# Altium footprint library Conn.Molex.PcbLib: 79 footprints (part 1 of 5)
Each footprint in its own frame and in the unit in brackets; x right, y up, seen from the top. Pads: shape width x height; smd on the part's side, far side on the other; paste and mask are expansions set on the pad; w line width, h text height; cw(c..) or ccw(c..) is an arc to the next point about the centre after c.
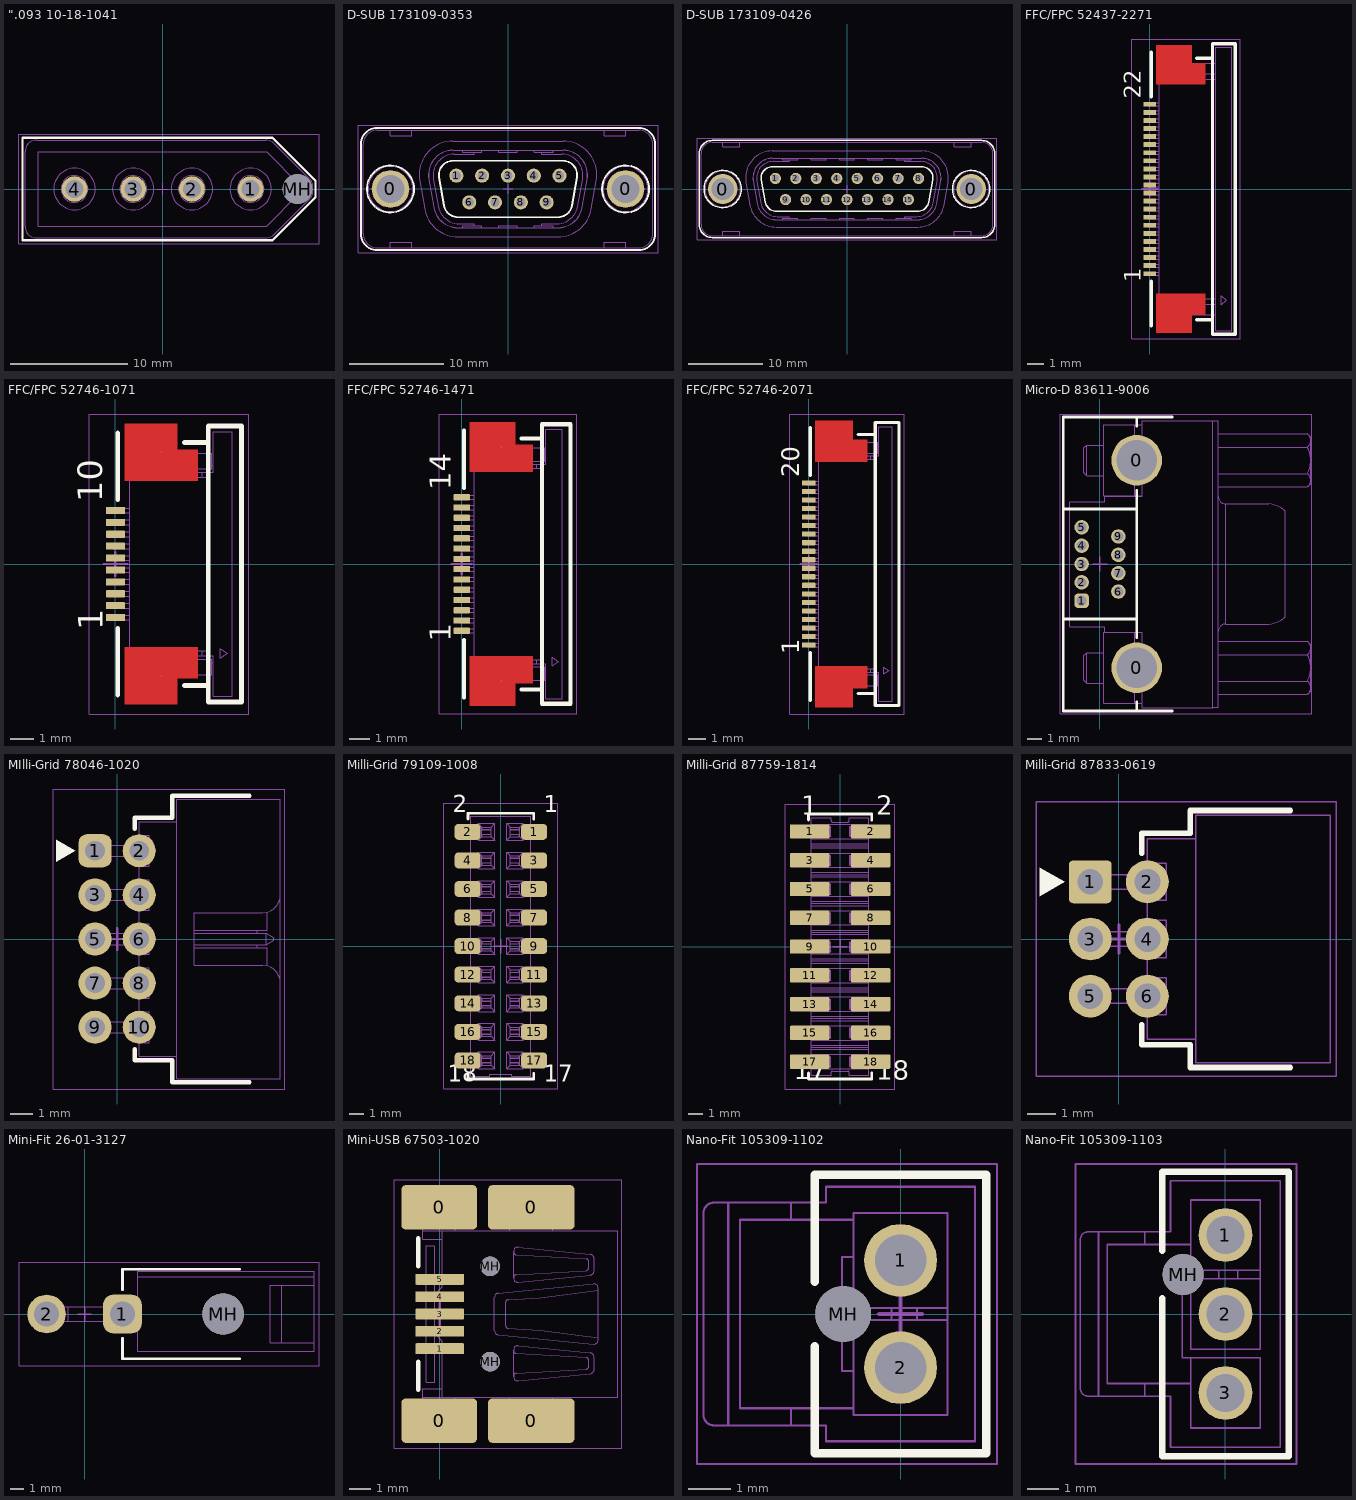
[diagram p0: the footprints below, top view; thin cyan lines are the x and y axes]

## ".093 10-18-1041 [mil] "Molex \".093 Series Connector, 24.6x8.40mm, 5.03mm Pitch, 4-Leads"
height 421.26
pads (5):
  round 86.61 hole 60: 1(297,0) 2(99,0) 3(-99,0) 4(-297,0)
  round 100 hole 100 unplated: MH(455,0)
Top Overlay:
  lines w7.87: -472.44,-173.23 -472.44,173.23 370.08,173.23 515.75,27.56 515.75,-27.56 370.08,-173.23 -472.44,-173.23
Mechanical 1:
  circle w1.97: c99.01,0 r45.5
  circle w1.97: c-98.99,0 r45.5
  circle w1.97: c297.01,0 r45.5
  circle w1.97: c-296.99,0 r45.5
  circle w1.97: c297.01,0 r70
  circle w1.97: c-296.99,0 r70
  circle w1.97: c99.01,0 r70
  circle w1.97: c-98.99,0 r70
  lines w1.97: -463.99,-125.63 ccw(c-424.62,-125.63) -424.62,-165 347.62,-165 ccw(c347.62,-125.63) 375.46,-153.47 500.24,-28.68 ccw(c486.32,-14.76) 506.01,-14.76 506.01,14.76 ccw(c486.32,14.76) 500.24,28.68 375.46,153.47 ccw(c347.62,125.63) 347.62,165 -424.62,165 ccw(c-424.62,125.63) -463.99,125.63 -463.99,-125.63 ; -418.99,-125 -418.99,125 351.01,125 461.01,15 461.01,-15 351.01,-125 -418.99,-125
Mechanical 15:
  lines w1.97: -484.25,-185.04 -484.25,185.04 527.56,185.04 527.56,-185.04 -484.25,-185.04
  lines w3.94: -19.68,0 19.68,0 ; 0,-19.68 0,19.68
3D body "10-18-1041.STEP": height 420, standoff -170, extent -463.99,-165 506.01,165

## D-SUB 173109-0353 [mm] "Molex D-SUB Connector, 9-Lead,  5.6mm Standoff, 10.3mm PC Tail"
height 17.2
pads (11):
  round 4 hole 3: 0(-12.5,0) 0(12.5,0)
  round 1.5 hole 1: 1(-5.49,1.42) 2(-2.75,1.42) 3(0,1.42) 4(2.74,1.42) 5(5.48,1.42) 6(-4.12,-1.42) 7(-1.38,-1.42) 8(1.37,-1.42) 9(4.11,-1.42)
Top Overlay:
  circle w0.2: c12.5,0 r2.502
  circle w0.2: c-12.5,0 r2.502
  lines w0.2: -15.65,-4.75 ccw(c-13.9,-4.75) -13.9,-6.5 13.9,-6.5 ccw(c13.9,-4.75) 15.65,-4.75 15.65,4.75 ccw(c13.9,4.75) 13.9,6.5 -13.9,6.5 ccw(c-13.9,4.75) -15.65,4.75 -15.65,-4.75 ; -7.327,1.24 cw(c-5.85,1.5) -5.85,3 5.85,3 cw(c5.85,1.5) 7.327,1.24 6.798,-1.76 cw(c5.321,-1.5) 5.321,-3 -5.321,-3 cw(c-5.321,-1.5) -6.798,-1.76 -7.327,1.24
Bottom Overlay:
  region: -6.44,1.42 -7.306,0.92 -7.306,1.92
Mechanical 1:
  circle w0.05: c-12.5,0 r1.08
  circle w0.05: c12.5,0 r1.08
  circle w0.05: c12.5,0 r1.7
  circle w0.05: c-12.5,0 r1.7
  circle w0.05: c-12.5,0 r2.375
  circle w0.05: c12.5,0 r2.375
  circle w0.05: c-5.49,1.42 r0.5
  circle w0.05: c5.49,1.42 r0.5
  circle w0.05: c-1.37,-1.42 r0.5
  circle w0.05: c1.37,-1.42 r0.5
  circle w0.05: c-4.11,-1.42 r0.5
  circle w0.05: c-2.74,1.42 r0.5
  circle w0.05: c0,1.42 r0.5
  circle w0.05: c2.74,1.42 r0.5
  circle w0.05: c4.11,-1.42 r0.5
  lines w0.05: -13.469,-0.404 -13.066,0 -13.469,0.404 ; -12.904,-0.969 -12.5,-0.566 -12.096,-0.969 ; -12.904,0.969 -12.5,0.566 -12.096,0.969 ; -12.505,-6.24 -10.21,-6.24 ; -12.505,6.24 -10.21,6.24 ; -11.531,-0.404 -11.934,0 -11.531,0.404 ; -4.8,-4.1 -4.8,-3.892 -2.8,-3.892 -2.8,-4.1 ; -4.8,4.1 -4.8,3.892 -2.8,3.892 -2.8,4.1 ; -3.565,-3.892 -3.565,-3.697 -5.181,-3.697 cw(c-5.181,-1.44) -7.401,-1.851 -7.934,1.029 cw(c-5.715,1.44) -5.715,3.697 -3.565,3.697 -3.565,3.892 ; -1,-4.1 -1,-3.892 1,-3.892 1,-4.1 ; -1,4.1 -1,3.892 1,3.892 1,4.1 ; 2.8,-4.1 2.8,-3.892 4.8,-3.892 4.8,-4.1 ; 2.8,4.1 2.8,3.892 4.8,3.892 4.8,4.1 ; 3.565,-3.892 3.565,-3.697 5.181,-3.697 ccw(c5.181,-1.44) 7.401,-1.851 7.934,1.029 ccw(c5.715,1.44) 5.715,3.697 3.565,3.697 3.565,3.892 ; 10.21,-6.24 12.505,-6.24 ; 10.21,6.24 12.505,6.24 ; 11.531,-0.404 11.934,0 11.531,0.404 ; 12.096,-0.969 12.5,-0.566 12.904,-0.969 ; 12.096,0.969 12.5,0.566 12.904,0.969 ; 13.469,-0.404 13.066,0 13.469,0.404 ; -15.4,-4.75 ccw(c-13.9,-4.75) -13.9,-6.25 -12.505,-6.25 -12.505,-5.685 -10.21,-5.685 -10.21,-6.25 10.21,-6.25 10.21,-5.685 12.505,-5.685 12.505,-6.25 13.9,-6.25 ccw(c13.9,-4.75) 15.4,-4.75 15.4,4.75 ccw(c13.9,4.75) 13.9,6.25 12.505,6.25 12.505,5.685 10.21,5.685 10.21,6.25 -10.21,6.25 -10.21,5.685 -12.505,5.685 -12.505,6.25 -13.9,6.25 ccw(c-13.9,4.75) -15.4,4.75 -15.4,-4.75 ; -9.395,0.875 cw(c-5.85,1.5) -5.85,5.1 5.85,5.1 cw(c5.85,1.5) 9.395,0.875 8.866,-2.125 cw(c5.321,-1.5) 5.321,-5.1 -5.321,-5.1 cw(c-5.321,-1.5) -8.866,-2.125 -9.395,0.875 ; -8.421,1.047 cw(c-5.85,1.5) -5.85,4.11 5.85,4.11 cw(c5.85,1.5) 8.421,1.047 7.892,-1.953 cw(c5.321,-1.5) 5.321,-4.11 -5.321,-4.11 cw(c-5.321,-1.5) -7.892,-1.953 -8.421,1.047 ; -8.411,1.049 cw(c-5.85,1.5) -5.85,4.1 5.85,4.1 cw(c5.85,1.5) 8.411,1.049 7.882,-1.951 cw(c5.321,-1.5) 5.321,-4.1 -5.321,-4.1 cw(c-5.321,-1.5) -7.882,-1.951 -8.411,1.049
Mechanical 15:
  lines w0.05: -15.95,-6.8 15.95,-6.8 15.95,6.8 -15.95,6.8 -15.95,-6.8
  lines w0.1: -0.5,0 0.5,0 ; 0,-0.5 0,0.5
3D body "D-SUB 173109-0353.STEP": height 12.5, standoff -4.7, extent -15.4,-6.25 15.4,6.25

## D-SUB 173109-0426 [mm] "Molex D-SUB Connector, 15-Lead,  5.6mm Standoff, 10.3mm PC Tail"
height 17.2
pads (17):
  round 4 hole 3: 0(-16.65,0) 0(16.65,0)
  round 1.5 hole 1: 1(-9.6,1.42) 2(-6.86,1.42) 3(-4.11,1.42) 4(-1.37,1.42) 5(1.37,1.42) 6(4.11,1.42) 7(6.86,1.42) 8(9.6,1.42) 9(-8.23,-1.42) 10(-5.49,-1.42) 11(-2.74,-1.42) 12(0,-1.42) 13(2.74,-1.42) 14(5.49,-1.42) 15(8.23,-1.42)
Top Overlay:
  circle w0.2: c-16.65,0 r2.502
  circle w0.2: c16.65,0 r2.502
  lines w0.2: -19.8,-4.75 ccw(c-18.05,-4.75) -18.05,-6.5 18.05,-6.5 ccw(c18.05,-4.75) 19.8,-4.75 19.8,4.75 ccw(c18.05,4.75) 18.05,6.5 -18.05,6.5 ccw(c-18.05,4.75) -19.8,4.75 -19.8,-4.75 ; -11.477,1.24 cw(c-10,1.5) -10,3 10,3 cw(c10,1.5) 11.477,1.24 10.948,-1.76 cw(c9.471,-1.5) 9.471,-3 -9.471,-3 cw(c-9.471,-1.5) -10.948,-1.76 -11.477,1.24
Bottom Overlay:
  region: -10.55,1.42 -11.416,0.92 -11.416,1.92
Mechanical 1:
  circle w0.05: c-8.23,-1.42 r0.5
  circle w0.05: c5.49,-1.42 r0.5
  circle w0.05: c6.86,1.42 r0.5
  circle w0.05: c-1.37,1.42 r0.5
  circle w0.05: c8.23,-1.42 r0.5
  circle w0.05: c-4.11,1.42 r0.5
  circle w0.05: c-5.49,-1.42 r0.5
  circle w0.05: c4.11,1.42 r0.5
  circle w0.05: c-2.74,-1.42 r0.5
  circle w0.05: c2.74,-1.42 r0.5
  circle w0.05: c-6.86,1.42 r0.5
  circle w0.05: c0,-1.42 r0.5
  circle w0.05: c1.37,1.42 r0.5
  circle w0.05: c9.6,1.42 r0.5
  circle w0.05: c-9.6,1.42 r0.5
  circle w0.05: c-16.65,0 r2.375
  circle w0.05: c16.65,0 r2.375
  circle w0.05: c-16.65,0 r1.7
  circle w0.05: c16.65,0 r1.7
  circle w0.05: c16.65,0 r1.05
  circle w0.05: c-16.65,0 r1.05
  lines w0.05: -17.619,-0.404 -17.216,0 -17.619,0.404 ; -17.054,-0.969 -16.65,-0.566 -16.246,-0.969 ; -17.054,0.969 -16.65,0.566 -16.246,0.969 ; -16.655,-6.24 -14.36,-6.24 ; -16.655,6.24 -14.36,6.24 ; -15.681,-0.404 -16.084,0 -15.681,0.404 ; -8.6,-4.1 -8.6,-3.892 -6.6,-3.892 -6.6,-4.1 ; -8.6,4.1 -8.6,3.892 -6.6,3.892 -6.6,4.1 ; -7.715,-3.892 -7.715,-3.697 -9.331,-3.697 cw(c-9.331,-1.44) -11.551,-1.851 -12.084,1.029 cw(c-9.865,1.44) -9.865,3.697 -7.715,3.697 -7.715,3.892 ; -4.8,-4.1 -4.8,-3.892 -2.8,-3.892 -2.8,-4.1 ; -4.8,4.1 -4.8,3.892 -2.8,3.892 -2.8,4.1 ; -1,-4.1 -1,-3.892 1,-3.892 1,-4.1 ; -1,4.1 -1,3.892 1,3.892 1,4.1 ; 2.8,-4.1 2.8,-3.892 4.8,-3.892 4.8,-4.1 ; 2.8,4.1 2.8,3.892 4.8,3.892 4.8,4.1 ; 6.6,-4.1 6.6,-3.892 8.6,-3.892 8.6,-4.1 ; 6.6,4.1 6.6,3.892 8.6,3.892 8.6,4.1 ; 7.715,-3.892 7.715,-3.697 9.331,-3.697 ccw(c9.331,-1.44) 11.551,-1.851 12.084,1.029 ccw(c9.865,1.44) 9.865,3.697 7.715,3.697 7.715,3.892 ; 14.36,-6.24 16.655,-6.24 ; 14.36,6.24 16.655,6.24 ; 15.681,-0.404 16.084,0 15.681,0.404 ; 16.246,-0.969 16.65,-0.566 17.054,-0.969 ; 16.246,0.969 16.65,0.566 17.054,0.969 ; 17.619,-0.404 17.216,0 17.619,0.404 ; -19.55,-4.75 ccw(c-18.05,-4.75) -18.05,-6.25 -16.655,-6.25 -16.655,-5.685 -14.36,-5.685 -14.36,-6.25 14.36,-6.25 14.36,-5.685 16.655,-5.685 16.655,-6.25 18.05,-6.25 ccw(c18.05,-4.75) 19.55,-4.75 19.55,4.75 ccw(c18.05,4.75) 18.05,6.25 16.655,6.25 16.655,5.685 14.36,5.685 14.36,6.25 -14.36,6.25 -14.36,5.685 -16.655,5.685 -16.655,6.25 -18.05,6.25 ccw(c-18.05,4.75) -19.55,4.75 -19.55,-4.75 ; -13.545,0.875 cw(c-10,1.5) -10,5.1 10,5.1 cw(c10,1.5) 13.545,0.875 13.016,-2.125 cw(c9.471,-1.5) 9.471,-5.1 -9.471,-5.1 cw(c-9.471,-1.5) -13.016,-2.125 -13.545,0.875 ; -12.571,1.047 cw(c-10,1.5) -10,4.11 10,4.11 cw(c10,1.5) 12.571,1.047 12.042,-1.953 cw(c9.471,-1.5) 9.471,-4.11 -9.471,-4.11 cw(c-9.471,-1.5) -12.042,-1.953 -12.571,1.047 ; -12.561,1.049 cw(c-10,1.5) -10,4.1 10,4.1 cw(c10,1.5) 12.561,1.049 12.032,-1.951 cw(c9.471,-1.5) 9.471,-4.1 -9.471,-4.1 cw(c-9.471,-1.5) -12.032,-1.951 -12.561,1.049
Mechanical 15:
  lines w0.05: -20.1,-6.8 -20.1,6.8 20.1,6.8 20.1,-6.8 -20.1,-6.8
  lines w0.1: -0.5,0 0.5,0 ; 0,-0.5 0,0.5
3D body "D-SUB 173109-0426.STEP": height 12.5, standoff -4.7, extent -19.55,-6.25 19.55,6.25

## FFC/FPC 52437-2271 [mm] "Molex FFP/FPC Series Connector, 17.60x4.50mm, 0.5mm Pitch, 22-Leads"
height 2
pads (24):
  round 0.025 smd: 0(1.925,-7.7) 0(1.925,7.7)
  rrect20% 0.8x0.3 smd: 1(0,-5.25) 2(0,-4.75) 3(0,-4.25) 4(0,-3.75) 5(0,-3.25) 6(0,-2.75) 7(0,-2.25) 8(0,-1.75) 9(0,-1.25) 10(0,-0.75) 11(0,-0.25) 12(0,0.25) 13(0,0.75) 14(0,1.25) 15(0,1.75) 16(0,2.25) 17(0,2.75) 18(0,3.25) 19(0,3.75) 20(0,4.25) 21(0,4.75) 22(0,5.25)
Top Layer:
  region: 0.4,-8.9 0.4,-6.5 3.45,-6.5 3.45,-7.8 2.6,-7.8 2.6,-8.9
  region: 0.4,8.9 0.4,6.5 3.45,6.5 3.45,7.8 2.6,7.8 2.6,8.9
Top Overlay:
  lines w0.2: 0.1,-8.5 0.1,-5.7 ; 0.1,5.7 0.1,8.5 ; 2.9,-8.1 3.9,-8.1 ; 2.9,8.1 3.9,8.1 ; 3.9,-9 5.3,-9 5.3,9 3.9,9 3.9,-9
  text "22" at -0.2,5.602 h1.75
  text "1" at -0.2,-5.789 h1.75
Mechanical 1:
  lines w0.05: 0.598,-5.35 -0.102,-5.35 -0.102,-5.15 0.598,-5.15 ; 0.598,-4.85 -0.102,-4.85 -0.102,-4.65 0.598,-4.65 ; 0.598,-4.35 -0.102,-4.35 -0.102,-4.15 0.598,-4.15 ; 0.598,-3.85 -0.102,-3.85 -0.102,-3.65 0.598,-3.65 ; 0.598,-3.35 -0.102,-3.35 -0.102,-3.15 0.598,-3.15 ; 0.598,-2.85 -0.102,-2.85 -0.102,-2.65 0.598,-2.65 ; 0.598,-2.35 -0.102,-2.35 -0.102,-2.15 0.598,-2.15 ; 0.598,-1.85 -0.102,-1.85 -0.102,-1.65 0.598,-1.65 ; 0.598,-1.35 -0.102,-1.35 -0.102,-1.15 0.598,-1.15 ; 0.598,-0.85 -0.102,-0.85 -0.102,-0.65 0.598,-0.65 ; 0.598,-0.35 -0.102,-0.35 -0.102,-0.15 0.598,-0.15 ; 0.598,0.15 -0.102,0.15 -0.102,0.35 0.598,0.35 ; 0.598,0.65 -0.102,0.65 -0.102,0.85 0.598,0.85 ; 0.598,1.15 -0.102,1.15 -0.102,1.35 0.598,1.35 ; 0.598,1.65 -0.102,1.65 -0.102,1.85 0.598,1.85 ; 0.598,2.15 -0.102,2.15 -0.102,2.35 0.598,2.35 ; 0.598,2.65 -0.102,2.65 -0.102,2.85 0.598,2.85 ; 0.598,3.15 -0.102,3.15 -0.102,3.35 0.598,3.35 ; 0.598,3.65 -0.102,3.65 -0.102,3.85 0.598,3.85 ; 0.598,4.15 -0.102,4.15 -0.102,4.35 0.598,4.35 ; 0.598,4.65 -0.102,4.65 -0.102,4.85 0.598,4.85 ; 0.598,5.15 -0.102,5.15 -0.102,5.35 0.598,5.35 ; 1.098,-7.8 1.098,-8.5 1.298,-8.5 1.298,-8 1.598,-8 1.598,-8.5 1.798,-8.5 1.798,-7.8 ; 1.098,7.8 1.098,8.5 1.298,8.5 1.298,8 1.598,8 1.598,8.5 1.798,8.5 1.798,7.8 ; 4.098,-7.8 0.598,-7.8 0.598,7.8 4.098,7.8 ; 4.098,-7.15 1.373,-7.15 cw(c1.373,-6.975) 1.373,-6.8 4.098,-6.8 ; 4.098,6.8 1.373,6.8 cw(c1.373,6.975) 1.373,7.15 4.098,7.15 ; 4.098,-8.8 5.098,-8.8 5.098,8.8 4.098,8.8 4.098,-8.8 ; 4.448,-7.17 4.448,-6.61 4.748,-6.89 4.448,-7.17
Mechanical 15:
  lines w0.05: -1.1,-9.3 5.6,-9.3 5.6,9.3 -1.1,9.3 -1.1,-9.3
  lines w0.1: -0.5,0 0.5,0 ; 0,-0.5 0,0.5
3D body "FFC_FPC 52437-2271.STEP": height 2.16, standoff 0, extent -0.102,-8.8 5.098,8.8

## FFC/FPC 52746-1071 [mm] "Molex FFP/FPC Series Connector, 11.10x4.30mm, 0.5mm Pitch, 10-Leads"
height 2
pads (12):
  round 0.025 smd: 0(1.925,-4.7) 0(1.925,4.7)
  rrect20% 0.8x0.3 smd: 1(0,-2.25) 2(0,-1.75) 3(0,-1.25) 4(0,-0.75) 5(0,-0.25) 6(0,0.25) 7(0,0.75) 8(0,1.25) 9(0,1.75) 10(0,2.25)
Top Layer:
  region: 0.4,-5.9 0.4,-3.5 3.45,-3.5 3.45,-4.8 2.6,-4.8 2.6,-5.9
  region: 0.4,5.9 0.4,3.5 3.45,3.5 3.45,4.8 2.6,4.8 2.6,5.9
Top Overlay:
  lines w0.2: 0.1,-5.5 0.1,-2.7 ; 0.1,2.7 0.1,5.5 ; 2.9,-5.1 3.9,-5.1 ; 2.9,5.1 3.9,5.1 ; 3.9,-5.8 5.3,-5.8 5.3,5.8 3.9,5.8 3.9,-5.8
  text "10" at -0.208,2.6 h1.75
  text "1" at -0.2,-2.789 h1.75
Mechanical 1:
  lines w0.05: 0.398,-2.35 0.398,-2.15 ; 0.398,-1.85 0.398,-1.65 ; 0.398,-1.35 0.398,-1.15 ; 0.398,-0.85 0.398,-0.65 ; 0.398,-0.35 0.398,-0.15 ; 0.398,0.15 0.398,0.35 ; 0.398,0.65 0.398,0.85 ; 0.398,1.15 0.398,1.35 ; 0.398,1.65 0.398,1.85 ; 0.398,2.15 0.398,2.35 ; 0.598,-2.35 -0.102,-2.35 -0.102,-2.15 0.598,-2.15 ; 0.598,-1.85 -0.102,-1.85 -0.102,-1.65 0.598,-1.65 ; 0.598,-1.35 -0.102,-1.35 -0.102,-1.15 0.598,-1.15 ; 0.598,-0.85 -0.102,-0.85 -0.102,-0.65 0.598,-0.65 ; 0.598,-0.35 -0.102,-0.35 -0.102,-0.15 0.598,-0.15 ; 0.598,0.15 -0.102,0.15 -0.102,0.35 0.598,0.35 ; 0.598,0.65 -0.102,0.65 -0.102,0.85 0.598,0.85 ; 0.598,1.15 -0.102,1.15 -0.102,1.35 0.598,1.35 ; 0.598,1.65 -0.102,1.65 -0.102,1.85 0.598,1.85 ; 0.598,2.15 -0.102,2.15 -0.102,2.35 0.598,2.35 ; 0.648,-4.65 0.648,-4.85 1.098,-4.85 1.098,-5.35 1.298,-5.35 1.298,-4.85 1.598,-4.85 1.598,-5.35 1.798,-5.35 1.798,-4.65 ; 0.648,4.65 0.648,4.85 1.098,4.85 1.098,5.35 1.298,5.35 1.298,4.85 1.598,4.85 1.598,5.35 1.798,5.35 1.798,4.65 ; 2.348,-3.65 2.348,-3.85 4.098,-3.85 4.098,-5.55 4.898,-5.55 4.898,5.55 4.098,5.55 4.098,3.85 2.348,3.85 2.348,3.65 ; 3.648,-3.85 3.648,-3.65 ; 3.648,3.65 3.648,3.85 ; 3.948,-3.85 3.948,3.85 ; 3.948,-3.65 1.373,-3.65 ccw(c1.373,-3.825) 1.373,-4 4.048,-4 4.048,-4.65 0.598,-4.65 0.598,4.65 4.048,4.65 4.048,4 1.373,4 ccw(c1.373,3.825) 1.373,3.65 3.948,3.65 ; 4.048,-4.15 4.098,-4.15 ; 4.048,4.15 4.098,4.15 ; 4.398,-3.95 4.398,-3.55 4.698,-3.75 4.398,-3.95
Mechanical 15:
  lines w0.05: -1.1,-6.3 5.6,-6.3 5.6,6.3 -1.1,6.3 -1.1,-6.3
  lines w0.1: -0.5,0 0.5,0 ; 0,-0.5 0,0.5
3D body "FFC_FPC 52746-1071.STEP": height 1.94, standoff 0.02, extent -0.102,-5.55 4.898,5.55

## FFC/FPC 52746-1471 [mm] "Molex FFP/FPC Series Connector, 13.10x4.30mm, 0.5mm Pitch, 14-Leads"
height 2
pads (16):
  round 0.025 smd: 0(1.925,-5.7) 0(1.925,5.7)
  rrect20% 0.8x0.3 smd: 1(0,-3.25) 2(0,-2.75) 3(0,-2.25) 4(0,-1.75) 5(0,-1.25) 6(0,-0.75) 7(0,-0.25) 8(0,0.25) 9(0,0.75) 10(0,1.25) 11(0,1.75) 12(0,2.25) 13(0,2.75) 14(0,3.25)
Top Layer:
  region: 0.4,-6.9 0.4,-4.5 3.45,-4.5 3.45,-5.8 2.6,-5.8 2.6,-6.9
  region: 0.4,6.9 0.4,4.5 3.45,4.5 3.45,5.8 2.6,5.8 2.6,6.9
Top Overlay:
  lines w0.2: 0.1,-6.5 0.1,-3.7 ; 0.1,3.7 0.1,6.5 ; 2.9,-6.1 3.9,-6.1 ; 2.9,6.1 3.9,6.1 ; 3.9,-6.8 5.3,-6.8 5.3,6.8 3.9,6.8 3.9,-6.8
  text "14" at -0.2,3.6 h1.75
  text "1" at -0.2,-3.789 h1.75
Mechanical 1:
  lines w0.05: 0.398,-3.35 0.398,-3.15 ; 0.398,-2.85 0.398,-2.65 ; 0.398,-2.35 0.398,-2.15 ; 0.398,-1.85 0.398,-1.65 ; 0.398,-1.35 0.398,-1.15 ; 0.398,-0.85 0.398,-0.65 ; 0.398,-0.35 0.398,-0.15 ; 0.398,0.15 0.398,0.35 ; 0.398,0.65 0.398,0.85 ; 0.398,1.15 0.398,1.35 ; 0.398,1.65 0.398,1.85 ; 0.398,2.15 0.398,2.35 ; 0.398,2.65 0.398,2.85 ; 0.398,3.15 0.398,3.35 ; 0.598,-3.35 -0.102,-3.35 -0.102,-3.15 0.598,-3.15 ; 0.598,-2.85 -0.102,-2.85 -0.102,-2.65 0.598,-2.65 ; 0.598,-2.35 -0.102,-2.35 -0.102,-2.15 0.598,-2.15 ; 0.598,-1.85 -0.102,-1.85 -0.102,-1.65 0.598,-1.65 ; 0.598,-1.35 -0.102,-1.35 -0.102,-1.15 0.598,-1.15 ; 0.598,-0.85 -0.102,-0.85 -0.102,-0.65 0.598,-0.65 ; 0.598,-0.35 -0.102,-0.35 -0.102,-0.15 0.598,-0.15 ; 0.598,0.15 -0.102,0.15 -0.102,0.35 0.598,0.35 ; 0.598,0.65 -0.102,0.65 -0.102,0.85 0.598,0.85 ; 0.598,1.15 -0.102,1.15 -0.102,1.35 0.598,1.35 ; 0.598,1.65 -0.102,1.65 -0.102,1.85 0.598,1.85 ; 0.598,2.15 -0.102,2.15 -0.102,2.35 0.598,2.35 ; 0.598,2.65 -0.102,2.65 -0.102,2.85 0.598,2.85 ; 0.598,3.15 -0.102,3.15 -0.102,3.35 0.598,3.35 ; 0.648,-5.65 0.648,-5.85 1.098,-5.85 1.098,-6.35 1.298,-6.35 1.298,-5.85 1.598,-5.85 1.598,-6.35 1.798,-6.35 1.798,-5.65 ; 0.648,5.65 0.648,5.85 1.098,5.85 1.098,6.35 1.298,6.35 1.298,5.85 1.598,5.85 1.598,6.35 1.798,6.35 1.798,5.65 ; 2.348,-4.65 2.348,-4.85 4.098,-4.85 4.098,-6.55 4.898,-6.55 4.898,6.55 4.098,6.55 4.098,4.85 2.348,4.85 2.348,4.65 ; 3.648,-4.85 3.648,-4.65 ; 3.648,4.65 3.648,4.85 ; 3.948,-4.85 3.948,4.85 ; 3.948,-4.65 1.373,-4.65 ccw(c1.373,-4.825) 1.373,-5 4.048,-5 4.048,-5.65 0.598,-5.65 0.598,5.65 4.048,5.65 4.048,5 1.373,5 ccw(c1.373,4.825) 1.373,4.65 3.948,4.65 ; 4.048,-5.15 4.098,-5.15 ; 4.048,5.15 4.098,5.15 ; 4.398,-4.95 4.398,-4.55 4.698,-4.75 4.398,-4.95
Mechanical 15:
  lines w0.05: -1.1,-7.3 5.6,-7.3 5.6,7.3 -1.1,7.3 -1.1,-7.3
  lines w0.1: -0.5,0 0.5,0 ; 0,-0.5 0,0.5
3D body "FFC_FPC 52746-1471.STEP": height 1.94, standoff 0.02, extent -0.102,-6.55 4.898,6.55

## FFC/FPC 52746-2071 [mm] "Molex FFP/FPC Series Connector, 16.10x4.30mm, 0.5mm Pitch, 14-Leads"
height 2
pads (22):
  round 0.025 smd: 0(1.925,-7.2) 0(1.925,7.2)
  rrect20% 0.8x0.3 smd: 1(0,-4.75) 2(0,-4.25) 3(0,-3.75) 4(0,-3.25) 5(0,-2.75) 6(0,-2.25) 7(0,-1.75) 8(0,-1.25) 9(0,-0.75) 10(0,-0.25) 11(0,0.25) 12(0,0.75) 13(0,1.25) 14(0,1.75) 15(0,2.25) 16(0,2.75) 17(0,3.25) 18(0,3.75) 19(0,4.25) 20(0,4.75)
Top Layer:
  region: 0.4,8.4 0.4,6 3.45,6 3.45,7.3 2.6,7.3 2.6,8.4
  region: 0.4,-8.4 0.4,-6 3.45,-6 3.45,-7.3 2.6,-7.3 2.6,-8.4
Top Overlay:
  lines w0.2: 0.1,-8 0.1,-5.2 ; 0.1,5.2 0.1,8 ; 2.9,-7.6 3.9,-7.6 ; 2.9,7.6 3.9,7.6 ; 3.9,-8.3 3.9,8.3 5.3,8.3 5.3,-8.3 3.9,-8.3
  text "1" at -0.2,-5.289 h1.75
  text "20" at -0.208,5.102 h1.75
Mechanical 1:
  lines w0.05: 0.398,-4.85 0.398,-4.65 ; 0.398,-4.35 0.398,-4.15 ; 0.398,-3.85 0.398,-3.65 ; 0.398,-3.35 0.398,-3.15 ; 0.398,-2.85 0.398,-2.65 ; 0.398,-2.35 0.398,-2.15 ; 0.398,-1.85 0.398,-1.65 ; 0.398,-1.35 0.398,-1.15 ; 0.398,-0.85 0.398,-0.65 ; 0.398,-0.35 0.398,-0.15 ; 0.398,0.15 0.398,0.35 ; 0.398,0.65 0.398,0.85 ; 0.398,1.15 0.398,1.35 ; 0.398,1.65 0.398,1.85 ; 0.398,2.15 0.398,2.35 ; 0.398,2.65 0.398,2.85 ; 0.398,3.15 0.398,3.35 ; 0.398,3.65 0.398,3.85 ; 0.398,4.15 0.398,4.35 ; 0.398,4.65 0.398,4.85 ; 0.598,-4.85 -0.102,-4.85 -0.102,-4.65 0.598,-4.65 ; 0.598,-4.35 -0.102,-4.35 -0.102,-4.15 0.598,-4.15 ; 0.598,-3.85 -0.102,-3.85 -0.102,-3.65 0.598,-3.65 ; 0.598,-3.35 -0.102,-3.35 -0.102,-3.15 0.598,-3.15 ; 0.598,-2.85 -0.102,-2.85 -0.102,-2.65 0.598,-2.65 ; 0.598,-2.35 -0.102,-2.35 -0.102,-2.15 0.598,-2.15 ; 0.598,-1.85 -0.102,-1.85 -0.102,-1.65 0.598,-1.65 ; 0.598,-1.35 -0.102,-1.35 -0.102,-1.15 0.598,-1.15 ; 0.598,-0.85 -0.102,-0.85 -0.102,-0.65 0.598,-0.65 ; 0.598,-0.35 -0.102,-0.35 -0.102,-0.15 0.598,-0.15 ; 0.598,0.15 -0.102,0.15 -0.102,0.35 0.598,0.35 ; 0.598,0.65 -0.102,0.65 -0.102,0.85 0.598,0.85 ; 0.598,1.15 -0.102,1.15 -0.102,1.35 0.598,1.35 ; 0.598,1.65 -0.102,1.65 -0.102,1.85 0.598,1.85 ; 0.598,2.15 -0.102,2.15 -0.102,2.35 0.598,2.35 ; 0.598,2.65 -0.102,2.65 -0.102,2.85 0.598,2.85 ; 0.598,3.15 -0.102,3.15 -0.102,3.35 0.598,3.35 ; 0.598,3.65 -0.102,3.65 -0.102,3.85 0.598,3.85 ; 0.598,4.15 -0.102,4.15 -0.102,4.35 0.598,4.35 ; 0.598,4.65 -0.102,4.65 -0.102,4.85 0.598,4.85 ; 0.648,-7.15 0.648,-7.35 1.098,-7.35 1.098,-7.85 1.298,-7.85 1.298,-7.35 1.598,-7.35 1.598,-7.85 1.798,-7.85 1.798,-7.15 ; 0.648,7.15 0.648,7.35 1.098,7.35 1.098,7.85 1.298,7.85 1.298,7.35 1.598,7.35 1.598,7.85 1.798,7.85 1.798,7.15 ; 2.348,-6.15 2.348,-6.35 4.098,-6.35 4.098,-8.05 4.898,-8.05 4.898,8.05 4.098,8.05 4.098,6.35 2.348,6.35 2.348,6.15 ; 3.648,-6.35 3.648,-6.15 ; 3.648,6.15 3.648,6.35 ; 3.948,-6.35 3.948,6.35 ; 3.948,-6.15 1.373,-6.15 ccw(c1.373,-6.325) 1.373,-6.5 4.048,-6.5 4.048,-7.15 0.598,-7.15 0.598,7.15 4.048,7.15 4.048,6.5 1.373,6.5 ccw(c1.373,6.325) 1.373,6.15 3.948,6.15 ; 4.048,-6.65 4.098,-6.65 ; 4.048,6.65 4.098,6.65 ; 4.398,-6.45 4.698,-6.25 4.398,-6.05 4.398,-6.45
Mechanical 15:
  lines w0.05: -1.1,-8.8 -1.1,8.8 5.6,8.8 5.6,-8.8 -1.1,-8.8
  lines w0.1: -0.5,0 0.5,0 ; 0,-0.5 0,0.5
3D body "FFC_FPC 52746-2071.STEP": height 1.94, standoff 0.02, extent -0.102,-8.05 4.898,8.05

## Micro-D 83611-9006 [mm] "Molex Micro-D Series Header, 9 Leads, 1.27mm Pitch"
height 7.82
pads (11):
  round 3.5 hole 2.79: 0(2.54,-7.175) 0(2.54,7.175)
  rrect50% 1x1 hole 0.7: 1(-1.27,-2.54)
  round 1 hole 0.7: 2(-1.27,-1.27) 3(-1.27,0) 4(-1.27,1.27) 5(-1.27,2.54) 6(1.27,-1.905) 7(1.27,-0.635) 8(1.27,0.635) 9(1.27,1.905)
Top Overlay:
  lines w0.2: -2.54,-3.81 2.54,-3.81 ; -2.54,3.81 2.54,3.81 ; 2.54,-10.16 2.54,-9.525 ; 2.54,-5.08 2.54,-3.81 ; 2.54,5.08 2.54,3.81 ; 2.54,9.525 2.54,10.16 ; 5,-10.16 -2.54,-10.16 -2.54,10.16 5,10.16 ; 2.54,-3.81 2.54,3.81
Bottom Overlay:
  region: -1.27,-3.24 -1.77,-4.106 -0.77,-4.106
Mechanical 1:
  lines w0.05: -1.112,-8.044 -0.912,-8.241 0.254,-8.241 ; -1.112,6.307 -0.912,6.11 0.254,6.11 ; 0.254,-8.257 -0.912,-8.257 ; 0.254,-6.123 -0.912,-6.123 ; 0.254,6.094 -0.912,6.094 ; 0.254,8.228 -0.912,8.228 ; 0.33,-4.723 0.33,-4.342 -2.083,-4.342 -2.083,4.294 0.33,4.294 0.33,4.675 2.921,4.675 2.921,9.895 7.798,9.895 ; 2.413,-9.624 2.921,-9.624 ; 2.413,-4.723 2.413,-9.625 0.254,-9.625 0.254,-4.723 2.921,-4.723 2.921,-9.943 7.798,-9.943 7.798,9.908 8.179,9.908 8.179,-9.904 7.798,-9.904 ; 2.413,4.726 2.413,9.628 0.254,9.628 0.254,4.726 2.921,4.727 ; 2.413,9.627 2.921,9.627 ; 8.179,-9.02 14.349,-9.02 14.58,-8.789 14.58,-8.103 14.58,-6.27 14.58,-5.585 14.349,-5.354 8.179,-5.354 ; 8.179,-8.104 14.334,-8.103 ; 8.179,-6.27 14.334,-6.27 ; 8.179,-4.667 cw(c8.687,-4.667) 8.687,-4.159 ; 8.179,4.67 ccw(c8.687,4.67) 8.687,4.162 ; 8.179,5.331 14.349,5.331 14.58,5.562 14.58,6.248 14.58,8.081 14.58,8.766 14.349,8.997 8.179,8.997 ; 8.179,6.247 14.334,6.248 ; 8.179,8.081 14.334,8.081 ; 14.334,-9.02 ccw(c14.03,-8.562) 14.334,-8.103 ; 14.334,-5.354 cw(c14.03,-5.812) 14.334,-6.27 ; 14.334,5.331 ccw(c14.03,5.789) 14.334,6.248 ; 14.334,8.997 cw(c14.03,8.539) 14.334,8.081 ; -0.912,-8.257 -1.112,-8.057 -1.112,-6.323 -0.912,-6.123 ; -0.912,-8.257 -0.912,-6.123 ; -0.912,6.094 -1.112,6.294 -1.112,8.028 -0.912,8.228 ; -0.912,6.094 -0.912,8.228 ; 8.687,-4.159 11.684,-4.159 ccw(c11.525,-2.261) 12.827,-3.651 12.827,3.654 ccw(c11.525,2.264) 11.684,4.162 8.687,4.162 ; 8.687,-4.159 8.687,4.162 ; 14.334,-8.103 ccw(c12.746,-7.187) 14.334,-6.27 ; 14.334,6.248 ccw(c12.746,7.164) 14.334,8.081
Mechanical 15:
  lines w0.05: -2.75,-10.375 14.65,-10.375 14.65,10.375 -2.75,10.375 -2.75,-10.375
  lines w0.1: -0.5,0 0.5,0 ; 0,-0.5 0,0.5
3D body "Micro-D 83611-9006.STEP": height 7.8, standoff -2.79, extent -2.083,-9.944 14.58,9.906

## MIlli-Grid 78046-1020 [mm] "Molex Milli-Grid Header, 10-Pin, 2.00mm Pitch, Right Abgle"
height 6.3
pads (10):
  rrect50% 1.5x1.5 hole 0.9: 1(-1,4)
  round 1.5 hole 0.9: 2(1,4) 3(-1,2) 4(1,2) 5(-1,0) 6(1,0) 7(-1,-2) 8(1,-2) 9(-1,-4) 10(1,-4)
Top Overlay:
  region: -1.9,4 -2.766,3.5 -2.766,4.5
  lines w0.2: 0.8,-5 0.8,-5.5 2.5,-5.5 2.5,-6.5 6,-6.5 ; 0.8,5 0.8,5.5 2.5,5.5 2.5,6.5 6,6.5
Mechanical 1:
  lines w0.05: -0.5,-4.25 -0.5,-3.75 ; -0.5,-2.25 -0.5,-1.75 ; -0.5,-0.25 -0.5,0.25 ; -0.5,1.75 -0.5,2.25 ; -0.5,3.75 -0.5,4.25 ; 1.25,-4.695 1.25,-3.305 ; 1.25,-4.25 -1.25,-4.25 -1.25,-3.75 1.25,-3.75 ; 1.25,-2.695 1.25,-1.305 ; 1.25,-2.25 -1.25,-2.25 -1.25,-1.75 1.25,-1.75 ; 1.25,-0.695 1.25,0.695 ; 1.25,-0.25 -1.25,-0.25 -1.25,0.25 1.25,0.25 ; 1.25,1.305 1.25,2.695 ; 1.25,1.75 -1.25,1.75 -1.25,2.25 1.25,2.25 ; 1.25,3.305 1.25,4.695 ; 1.25,3.75 -1.25,3.75 -1.25,4.25 1.25,4.25 ; 2.7,-5.315 1,-5.315 1,-4.695 1.45,-4.695 1.45,-3.305 1,-3.305 1,-2.695 1.45,-2.695 1.45,-1.305 1,-1.305 1,-0.695 1.45,-0.695 1.45,0.695 1,0.695 1,1.305 1.45,1.305 1.45,2.695 1,2.695 1,3.305 1.45,3.305 1.45,4.695 1,4.695 1,5.315 2.7,5.315 ; 3.5,-0.4 6.793,-0.4 6.793,-1.224 ; 3.5,-0.25 6.75,-0.25 ; 3.5,0.25 6.75,0.25 ; 3.5,0.4 6.793,0.4 6.793,1.224 ; 6.36,-0.4 6.36,-0.25 ; 6.36,0.25 6.36,0.4 ; 7.4,-2 ccw(c6.6,-2) 6.6,-1.2 3.5,-1.2 3.5,1.2 6.6,1.2 ccw(c6.6,2) 7.4,2 ; 6.75,-0.25 7.1,-0.05 7.1,0.05 6.75,0.25 ; 6.75,-0.25 6.75,0.25 ; 2.7,-6.325 2.7,6.325 7.4,6.325 7.4,-6.325 2.7,-6.325
Mechanical 15:
  lines w0.05: -2.9,-6.8 7.6,-6.8 7.6,6.8 -2.9,6.8 -2.9,-6.8
  lines w0.1: -0.5,0 0.5,0 ; 0,-0.5 0,0.5
3D body "MIlli-Grid 78046-1020.STEP": height 6.3, standoff -2.16, extent -1.25,-6.325 7.4,6.325

## Milli-Grid 79109-1008 [mm] "Molex Milli-Grid Socket, 18-Pin, 2.00mm Pitch"
height 4.65
pads (18):
  rrect50% 1.83x1.12 smd: 1(2.325,8) 2(-2.325,8) 3(2.325,6) 4(-2.325,6) 5(2.325,4) 6(-2.325,4) 7(2.325,2) 8(-2.325,2) 9(2.325,0) 10(-2.325,0) 11(2.325,-2) 12(-2.325,-2) 13(2.325,-4) 14(-2.325,-4) 15(2.325,-6) 16(-2.325,-6) 17(2.325,-8) 18(-2.325,-8)
Top Overlay:
  lines w0.2: -2.3,-8.9 -2.3,-9.3 2.3,-9.3 2.3,-8.9 ; -2.3,8.9 -2.3,9.3 2.3,9.3 2.3,8.9
  text "18" at -3.7,-9.883 h2
  text "17" at 3.002,-9.872 h2
  text "1" at 3.002,9 h2
  text "2" at -3.354,9 h2
Mechanical 1:
  drawing of 386 lines, arcs and shapes, not listed
Mechanical 15:
  lines w0.05: -4,-10 4,-10 4,10 -4,10 -4,-10
  lines w0.1: -0.5,0 0.5,0 ; 0,-0.5 0,0.5
3D body "Milli-Grid 79109-1008.STEP": height 4.65, standoff 0, extent -2.667,-9.093 2.667,9.093

## Milli-Grid 87759-1814 [mm] "Molex Milli-Grid Header, 18-pin, 2.00mm Pitch"
height 6.5
pads (18):
  rrect20% 2.75x1 smd: 1(-2.125,8) 2(2.125,8) 3(-2.125,6) 4(2.125,6) 5(-2.125,4) 6(2.125,4) 7(-2.125,2) 8(2.125,2) 9(-2.125,0) 10(2.125,0) 11(-2.125,-2) 12(2.125,-2) 13(-2.125,-4) 14(2.125,-4) 15(-2.125,-6) 16(2.125,-6) 17(-2.125,-8) 18(2.125,-8)
Top Overlay:
  lines w0.2: -2.2,-8.8 -2.2,-9.2 2.2,-9.2 2.2,-8.8 ; -2.2,8.8 -2.2,9.2 2.2,9.2 2.2,8.8
  text "18" at 2.502,-9.693 h2.25
  text "17" at -3.21,-9.681 h2.25
  text "2" at 2.5,8.7 h2.25
  text "1" at -2.687,8.7 h2.25
Mechanical 1:
  drawing of 472 lines, arcs and shapes, not listed
Mechanical 15:
  lines w0.05: -3.8,-9.9 -3.8,9.9 3.8,9.9 3.8,-9.9 -3.8,-9.9
  lines w0.1: -0.5,0 0.5,0 ; 0,-0.5 0,0.5
3D body "Milli-Grid 87759-1814.STEP": height 6.5, standoff 0, extent -2.75,-8.95 2.75,8.95

## Milli-Grid 87833-0619 [mm] "Molex Milli-Grid Header, 6-pin, 2.00mm Pitch, Right-Angle"
height 6.3
pads (6):
  rrect20% 1.5x1.5 hole 0.9: 1(-1,2)
  round 1.5 hole 0.9: 2(1,2) 3(-1,0) 4(1,0) 5(-1,-2) 6(1,-2)
Top Overlay:
  region: -1.9,2 -2.766,1.5 -2.766,2.5
  lines w0.2: 0.8,-3 0.8,-3.7 2.5,-3.7 2.5,-4.5 6,-4.5 ; 0.8,3 0.8,3.7 2.5,3.7 2.5,4.5 6,4.5
Mechanical 1:
  lines w0.05: -0.55,-2.25 -0.55,-1.75 ; -0.55,-0.25 -0.55,0.25 ; -0.55,1.75 -0.55,2.25 ; 1.25,-2.65 1.25,-1.35 ; 1.25,-2.25 -1.25,-2.25 -1.25,-1.75 1.25,-1.75 ; 1.25,-0.65 1.25,0.65 ; 1.25,-0.25 -1.25,-0.25 -1.25,0.25 1.25,0.25 ; 1.25,1.35 1.25,2.65 ; 1.25,1.75 -1.25,1.75 -1.25,2.25 1.25,2.25 ; 2.7,-3.5 1,-3.5 1,-2.65 1.654,-2.65 1.654,-1.35 1,-1.35 1,-0.65 1.654,-0.65 1.654,0.65 1,0.65 1,1.35 1.654,1.35 1.654,2.65 1,2.65 1,3.5 2.7,3.5 ; 2.7,-4.325 2.7,4.325 7.4,4.325 7.4,-4.325 2.7,-4.325
Mechanical 15:
  lines w0.05: -2.9,-4.8 -2.9,4.8 7.6,4.8 7.6,-4.8 -2.9,-4.8
  lines w0.1: -0.5,0 0.5,0 ; 0,-0.5 0,0.5
3D body "Milli-Grid 87833-0619.STEP": height 6.3, standoff -2.16, extent -1.25,-4.325 7.4,4.325

## Mini-Fit 26-01-3127 [mm] "Molex Mini-Fit Header, 2-Pin, 5.5mm Pitch"
height 10
pads (3):
  rrect50% 2.8x2.8 hole 1.8: 1(2.75,0)
  round 2.8 hole 1.8: 2(-2.75,0)
  round 3 hole 3 unplated: MH(10.05,0)
Top Overlay:
  lines w0.2: 2.75,-1.75 2.75,-3.25 11.25,-3.25 ; 2.75,1.75 2.75,3.25 11.25,3.25
Mechanical 1:
  lines w0.05: -1.195,-0.535 -1.195,0.535 ; 3.85,-0.535 -3.285,-0.535 -3.285,0.535 3.85,0.535 ; 3.85,2.7 16.65,2.7 ; 14.3,-2.1 14.3,2.1 ; 16.65,-2.1 13.478,-2.1 13.478,2.1 16.65,2.1 ; 3.85,-2.7 3.85,3.1 16.65,3.1 16.65,-2.7 3.85,-2.7
Mechanical 15:
  lines w0.05: -4.75,-3.75 17,-3.75 17,3.75 -4.75,3.75 -4.75,-3.75
  lines w0.1: -0.5,0 0.5,0 ; 0,-0.5 0,0.5
3D body "Mini-Fit 26-01-3127.STEP": height 11.4, standoff -3.6, extent -3.285,-2.7 16.65,3.097

## Mini-USB 67503-1020 [mm] "Molex Mini-USB Type B Connector, 9.00x9.90mm"
height 3.95
pads (11):
  rrect20% 3.5x2.05 smd: 0(-0.025,-4.925) 0(-0.025,4.925)
  rrect20% 4x2.05 smd: 0(4.225,-4.925) 0(4.225,4.925)
  rrect20% 2.25x0.5 smd: 1(0,-1.6) 2(0,-0.8) 3(0,0) 4(0,0.8) 5(0,1.6)
  round 0.9 hole 0.9 unplated: MH(2.325,-2.2) MH(2.325,2.2)
Top Overlay:
  lines w0.2: -1,-3.5 -1,-2.2 ; -1,2.2 -1,3.5
Mechanical 1:
  lines w0.05: -0.775,-3.85 8.225,-3.85 8.225,3.85 -0.775,3.85 ; -0.612,-0.9 -0.225,-0.9 0.125,-1.25 0.125,-3.85 ; -0.612,0.9 -0.225,0.9 0.125,1.25 0.125,3.85 ; -0.225,-1.775 0.125,-1.775 ; -0.225,-1.425 0.125,-1.425 ; -0.225,-0.975 -0.15,-0.975 ; -0.225,0.975 -0.15,0.975 ; -0.225,1.425 0.125,1.425 ; -0.225,1.775 0.125,1.775 ; 0.125,-3.45 -0.775,-3.45 -0.775,-4.95 -0.48,-4.95 -0.48,-4.85 cw(c-0.28,-4.85) -0.28,-4.65 0.23,-4.65 cw(c0.23,-4.85) 0.43,-4.85 0.43,-4.95 0.725,-4.95 0.725,-3.85 ; 0.125,3.45 -0.775,3.45 -0.775,4.95 -0.48,4.95 -0.48,4.85 ccw(c-0.28,4.85) -0.28,4.65 0.23,4.65 ccw(c0.23,4.85) 0.43,4.85 0.43,4.95 0.725,4.95 0.725,3.85 ; 3.225,-3.85 3.225,-4.95 3.525,-4.95 3.525,-4.85 cw(c3.725,-4.85) 3.725,-4.65 4.725,-4.65 cw(c4.725,-4.85) 4.925,-4.85 4.925,-4.95 5.225,-4.95 5.225,-3.85 ; 3.225,3.85 3.225,4.95 3.525,4.95 3.525,4.85 ccw(c3.725,4.85) 3.725,4.65 4.725,4.65 ccw(c4.725,4.85) 4.925,4.85 4.925,4.95 5.225,4.95 5.225,3.85 ; 3.405,-2.885 ccw(c3.605,-2.885) 3.625,-3.084 6.945,-2.754 ccw(c6.925,-2.555) 7.125,-2.555 7.125,-1.995 ccw(c6.925,-1.995) 6.945,-1.796 3.625,-1.466 ccw(c3.605,-1.665) 3.405,-1.665 ; 3.405,-2.885 3.405,-2.856 cw(c3.53,-2.856) 3.53,-2.731 6.771,-2.542 ccw(c6.745,-2.418) 6.872,-2.414 6.872,-2.136 ccw(c6.745,-2.131) 6.771,-2.008 3.53,-1.819 cw(c3.53,-1.694) 3.405,-1.694 3.405,-1.665 ; 3.405,-2.885 3.405,-1.665 ; 3.405,1.665 ccw(c3.605,1.665) 3.625,1.466 6.945,1.796 ccw(c6.925,1.995) 7.125,1.995 7.125,2.555 ccw(c6.925,2.555) 6.945,2.754 3.625,3.084 ccw(c3.605,2.885) 3.405,2.885 ; 3.405,1.665 3.405,1.694 cw(c3.53,1.694) 3.53,1.819 6.771,2.008 ccw(c6.745,2.132) 6.872,2.136 6.872,2.414 ccw(c6.745,2.419) 6.771,2.542 3.53,2.731 cw(c3.53,2.856) 3.405,2.856 3.405,2.885 ; 3.405,1.665 3.405,2.885 ; 7.325,-1.1 7.325,-1.174 cw(c7.105,-1.174) 7.105,-1.394 2.705,-0.957 cw(c2.725,-0.758) 2.525,-0.758 2.525,0.758 cw(c2.725,0.758) 2.705,0.957 7.105,1.394 cw(c7.105,1.174) 7.325,1.174 7.325,1.1 ; 7.325,-1.1 4.632,-0.75 3.161,-0.667 cw(c3.166,-0.539) 3.038,-0.537 3.038,0.537 cw(c3.166,0.54) 3.161,0.667 4.632,0.75 7.325,1.1 ; 7.325,-1.1 7.325,1.1 ; -0.625,-3.15 -0.225,-3.15 -0.225,3.15 -0.625,3.15 -0.625,-3.15
Mechanical 15:
  lines w0.05: -2.1,-6.2 8.4,-6.2 8.4,6.2 -2.1,6.2 -2.1,-6.2
  lines w0.1: -0.5,0 0.5,0 ; 0,-0.5 0,0.5
3D body "Mini-USB 67503-1020.STEP": height 3.95, standoff -1, extent -0.775,-4.95 8.225,4.95

## Nano-Fit 105309-1102 [mm] "Molex Nano-Fit Header, 2-Pin, 2.5mm Pitch"
height 10.51
pads (3):
  round 1.7 hole 1.2: 1(0,1.25) 2(0,-1.25)
  round 1.3 hole 1.3 unplated: MH(-1.34,0)
Top Overlay:
  lines w0.2: -2,-0.75 -2,-3.25 2,-3.25 2,3.25 -2,3.25 -2,0.75
Bottom Overlay:
  region: 0,2.384 -0.5,3.25 0.5,3.25
Mechanical 1:
  lines w0.05: -4.02,-2.6 -4.02,2.6 ; -2.56,-2.6 -2.56,-2.2 ; -2.56,2.2 -2.56,2.6 ; -1.095,-2.2 -3.75,-2.2 -3.75,2.2 -1.095,2.2 ; -1.095,-1.33 -1.37,-1.33 -1.37,1.33 -1.095,1.33 ; -0.215,-0.14 -0.215,0.14 ; 0.385,-0.14 0.385,0.14 ; 1.095,-0.14 -1.095,-0.14 -1.095,-2.36 1.095,-2.36 1.095,2.36 -1.095,2.36 -1.095,0.14 1.095,0.14 ; -0.318,-1.568 -0.318,-0.933 ; -0.318,-1.568 -0.168,-1.418 ; -0.318,-1.568 0.318,-1.568 ; -0.318,-0.933 0.318,-0.933 ; -0.318,-0.933 -0.168,-1.082 ; -0.318,0.933 -0.318,1.568 ; -0.318,0.933 -0.168,1.082 ; -0.318,0.933 0.318,0.933 ; -0.318,1.568 0.318,1.568 ; -0.318,1.568 -0.168,1.418 ; -0.168,-1.418 -0.168,-1.082 ; -0.168,-1.418 0.168,-1.418 ; -0.168,-1.082 0.168,-1.082 ; -0.168,1.082 -0.168,1.418 ; -0.168,1.082 0.168,1.082 ; -0.168,1.418 0.168,1.418 ; 0.168,-1.418 0.168,-1.082 ; 0.168,-1.418 0.318,-1.568 ; 0.168,-1.082 0.318,-0.933 ; 0.168,1.082 0.168,1.418 ; 0.168,1.082 0.318,0.933 ; 0.168,1.418 0.318,1.568 ; 0.318,-1.568 0.318,-0.933 ; 0.318,0.933 0.318,1.568 ; -4.6,-2.35 ccw(c-4.35,-2.35) -4.35,-2.6 -1.74,-2.6 -1.74,-2.97 1.74,-2.97 1.74,2.97 -1.74,2.97 -1.74,2.6 -4.35,2.6 ccw(c-4.35,2.35) -4.6,2.35 -4.6,-2.35
Mechanical 15:
  lines w0.05: -4.75,-3.5 -4.75,3.5 2.25,3.5 2.25,-3.5 -4.75,-3.5
  lines w0.1: -0.5,0 0.5,0 ; 0,-0.5 0,0.5
3D body "Nano-Fit 105309-1102.stp": height 10.51, standoff -3.2, extent -4.6,-2.97 1.74,2.97

## Nano-Fit 105309-1103 [mm] "Molex Nano-Fit Header, 3-Pin, 2.5mm Pitch"
height 10.51
pads (4):
  round 1.7 hole 1.2: 1(0,2.5) 2(0,0) 3(0,-2.5)
  round 1.3 hole 1.3 unplated: MH(-1.34,1.25)
Top Overlay:
  lines w0.2: -2,0.5 -2,-4.5 2,-4.5 2,4.5 -2,4.5 -2,2
Bottom Overlay:
  region: 0,3.634 -0.5,4.5 0.5,4.5
Mechanical 1:
  lines w0.05: -4.02,-2.6 -4.02,2.6 ; -2.56,-2.6 -2.56,-2.2 ; -2.56,2.2 -2.56,2.6 ; -1.095,-2.2 -3.75,-2.2 -3.75,2.2 -1.095,2.2 ; -1.095,-1.39 -1.095,-3.61 1.095,-3.61 1.095,-1.39 -1.37,-1.39 -1.37,1.39 1.095,1.39 ; -1.095,1.39 -1.095,3.61 1.095,3.61 1.095,-1.11 -1.095,-1.11 -1.095,1.11 1.095,1.11 ; -0.215,1.11 -0.215,1.39 ; 0.385,1.11 0.385,1.39 ; -0.318,-2.818 0.318,-2.818 ; -0.318,-2.818 -0.168,-2.668 ; -0.318,-2.818 -0.318,-2.183 ; -0.318,-2.183 -0.168,-2.332 ; -0.318,-2.183 0.318,-2.183 ; -0.318,-0.318 -0.168,-0.168 ; -0.318,-0.318 -0.318,0.318 ; -0.318,-0.318 0.318,-0.318 ; -0.318,0.318 -0.168,0.168 ; -0.318,0.318 0.318,0.318 ; -0.318,2.183 0.318,2.183 ; -0.318,2.183 -0.168,2.332 ; -0.318,2.183 -0.318,2.818 ; -0.318,2.818 -0.168,2.668 ; -0.318,2.818 0.318,2.818 ; -0.168,-2.668 -0.168,-2.332 ; -0.168,-2.668 0.168,-2.668 ; -0.168,-2.332 0.168,-2.332 ; -0.168,-0.168 -0.168,0.168 ; -0.168,-0.168 0.168,-0.168 ; -0.168,0.168 0.168,0.168 ; -0.168,2.332 0.168,2.332 ; -0.168,2.332 -0.168,2.668 ; -0.168,2.668 0.168,2.668 ; 0.168,-2.668 0.168,-2.332 ; 0.168,-2.668 0.318,-2.818 ; 0.168,-2.332 0.318,-2.183 ; 0.168,-0.168 0.168,0.168 ; 0.168,-0.168 0.318,-0.318 ; 0.168,0.168 0.318,0.318 ; 0.168,2.332 0.318,2.183 ; 0.168,2.332 0.168,2.668 ; 0.168,2.668 0.318,2.818 ; 0.318,-2.818 0.318,-2.183 ; 0.318,-0.318 0.318,0.318 ; 0.318,2.183 0.318,2.818 ; -4.6,-2.35 ccw(c-4.35,-2.35) -4.35,-2.6 -1.74,-2.6 -1.74,-4.22 1.74,-4.22 1.74,4.22 -1.74,4.22 -1.74,2.6 -4.35,2.6 ccw(c-4.35,2.35) -4.6,2.35 -4.6,-2.35
Mechanical 15:
  lines w0.05: -4.75,-4.75 -4.75,4.75 2.25,4.75 2.25,-4.75 -4.75,-4.75
  lines w0.1: -0.5,0 0.5,0 ; 0,-0.5 0,0.5
3D body "Nano-Fit 105309-1103.stp": height 10.51, standoff -3.2, extent -4.6,-4.22 1.74,4.22